# Altium schematic symbol library FPGA_Xilinx_Virtex7.SchLib: 34 symbols (part 22 of 26)
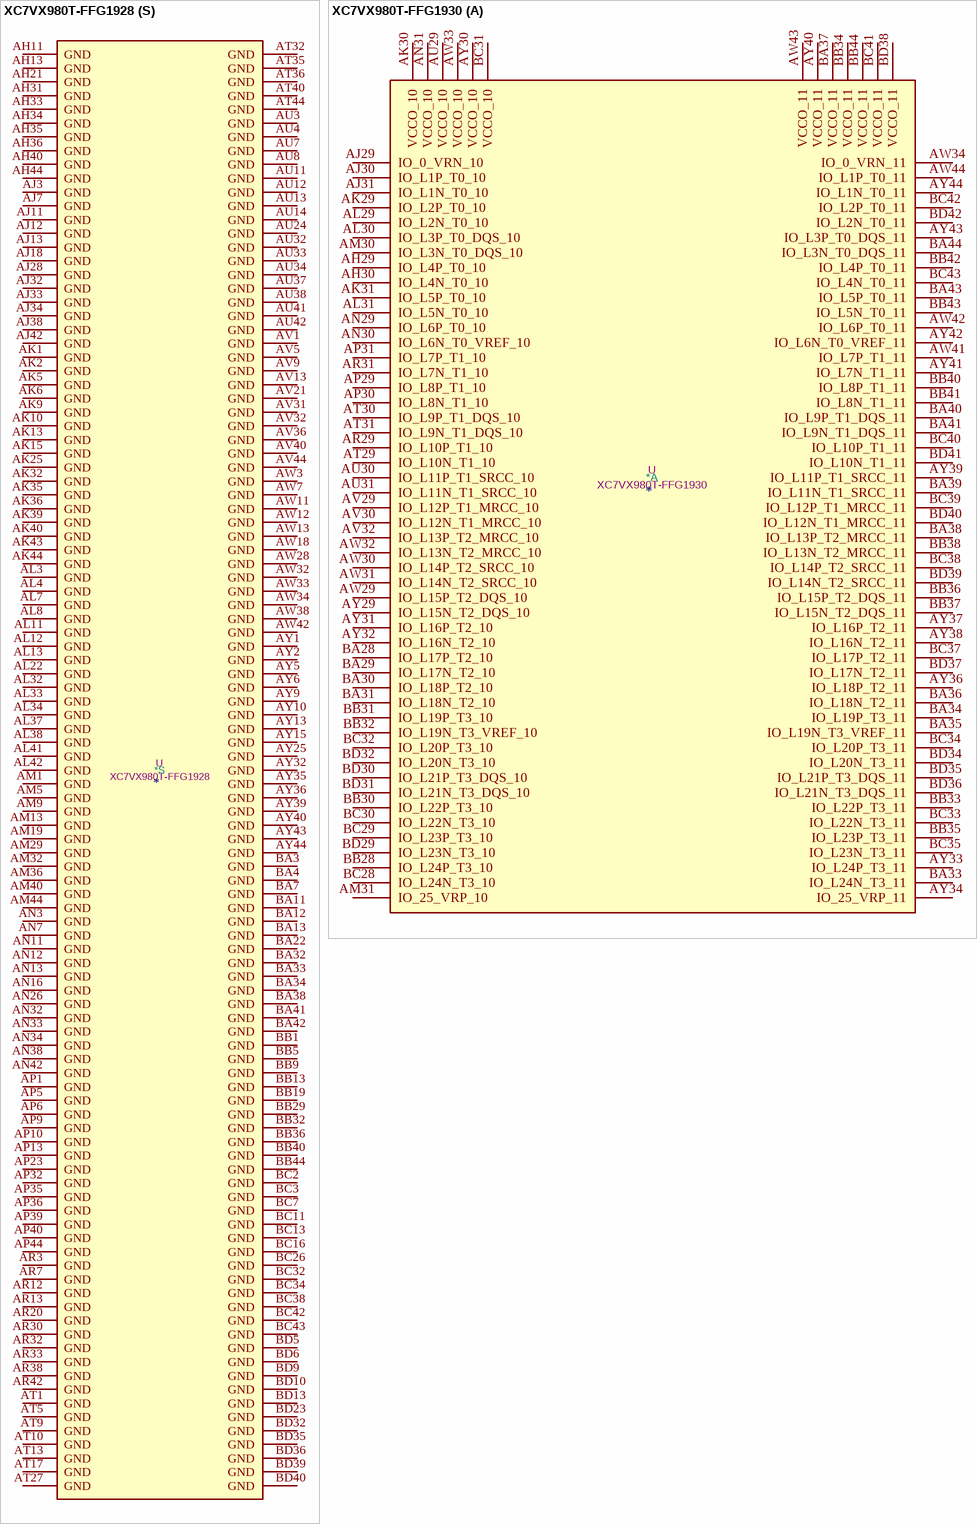
[diagram p193: symbols XC7VX980T-FFG1928 to XC7VX980T-FFG1930]

## XC7VX980T-FFG1928
designator *  value XC7VX980T-FFG1928  Reference: U
Virtex 7 XT 980 XC7VX980T-FFG1928; ki_keywords: FPGA; Description_: Virtex 7 XT 980 XC7VX980T-FFG1928
part A pins: AG28 IO_L1P_T0_D00_MOSI_14, AG30 IO_L2P_T0_D02_14, AH25 IO_L2P_T0_13, AH26 VCCO_13, AH27 IO_L1P_T0_13, AH28 IO_L1N_T0_D01_DIN_14, AH29 IO_L3P_T0_DQS_PUDC_B_14, AH30 IO_L2N_T0_D03_14, AJ25 IO_L2N_T0_13, AJ26 IO_L4P_T0_13, AJ27 IO_L1N_T0_13, AJ29 IO_L3N_T0_DQS_EMCCLK_14, AJ30 IO_L4P_T0_D04_14, AJ31 IO_L4N_T0_D05_14, AK26 IO_L4N_T0_13, AK27 IO_25_VRP_13, AK28 IO_L5P_T0_D06_14, AK29 IO_L5N_T0_D07_14, AK30 VCCO_14, AK31 IO_0_VRN_14, AL25 IO_0_VRN_13, AL26 IO_L5P_T0_13, AL27 VCCO_13, AL28 IO_25_VRP_14, AL29 IO_L6P_T0_FCS_B_14, AL30 IO_L6N_T0_D08_VREF_14, AL31 IO_L7P_T1_D09_14, AM25 IO_L3P_T0_DQS_13, AM26 IO_L5N_T0_13, AM27 IO_L6P_T0_13, AM28 IO_L9P_T1_DQS_14, AM30 IO_L8P_T1_D11_14, AM31 IO_L7N_T1_D10_14, AN25 IO_L3N_T0_DQS_13, AN27 IO_L6N_T0_VREF_13, AN28 IO_L9N_T1_DQS_D13_14, AN29 IO_L10P_T1_D14_14, AN30 IO_L8N_T1_D12_14, AN31 VCCO_14, AP25 IO_L8P_T1_13, AP26 IO_L8N_T1_13, AP27 IO_L9P_T1_DQS_13, AP28 VCCO_14, AP29 IO_L12P_T1_MRCC_14, AP30 IO_L10N_T1_D15_14, AP31 IO_L11P_T1_SRCC_14, AR25 VCCO_13, AR26 IO_L7P_T1_13, AR27 IO_L9N_T1_DQS_13, AR28 IO_L14P_T2_SRCC_14, AR29 IO_L12N_T1_MRCC_14, AR31 IO_L11N_T1_SRCC_14, AT25 IO_L10P_T1_13, AT26 IO_L7N_T1_13, AT28 IO_L14N_T2_SRCC_14, AT29 IO_L13P_T2_MRCC_14, AT30 IO_L13N_T2_MRCC_14, AT31 IO_L15P_T2_DQS_RDWR_B_14, AU25 IO_L11P_T1_SRCC_13, AU26 IO_L10N_T1_13, AU27 IO_L12P_T1_MRCC_13, AU28 IO_L12N_T1_MRCC_13, AU29 VCCO_14, AU30 IO_L17P_T2_A14_D30_14, AU31 IO_L15N_T2_DQS_DOUT_CSO_B_14, AV25 IO_L11N_T1_SRCC_13, AV26 VCCO_13, AV27 IO_L14P_T2_SRCC_13, AV28 IO_L14N_T2_SRCC_13, AV29 IO_L18P_T2_A12_D28_14, AV30 IO_L17N_T2_A13_D29_14, AW25 IO_L13P_T2_MRCC_13, AW26 IO_L13N_T2_MRCC_13, AW27 IO_L15P_T2_DQS_13, AW29 IO_L18N_T2_A11_D27_14, AW30 IO_L16P_T2_CSI_B_14, AW31 IO_L16N_T2_A15_D31_14, AY26 IO_L18P_T2_13, AY27 IO_L15N_T2_DQS_13, AY28 IO_L17P_T2_13, AY29 IO_L19P_T3_A10_D26_14, AY30 VCCO_14, AY31 IO_L20P_T3_A08_D24_14, BA24 IO_L16P_T2_13, BA25 IO_L16N_T2_13, BA26 IO_L18N_T2_13, BA27 VCCO_13, BA28 IO_L17N_T2_13, BA29 IO_L19N_T3_A09_D25_VREF_14, BA30 IO_L22P_T3_A05_D21_14, BA31 IO_L20N_T3_A07_D23_14, BB24 VCCO_13, BB25 IO_L19P_T3_13, BB26 IO_L19N_T3_VREF_13, BB27 IO_L20P_T3_13, BB28 IO_L24P_T3_13, BB30 IO_L24P_T3_A01_D17_14, BB31 IO_L22N_T3_A04_D20_14, BC24 IO_L21P_T3_DQS_13, BC25 IO_L21N_T3_DQS_13, BC27 IO_L20N_T3_13, BC28 IO_L24N_T3_13, BC29 IO_L23P_T3_A03_D19_14, BC30 IO_L24N_T3_A00_D16_14, BC31 VCCO_14, BD24 IO_L23P_T3_13, BD25 IO_L23N_T3_13, BD26 IO_L22P_T3_13, BD27 IO_L22N_T3_13, BD28 VCCO_13, BD29 IO_L23N_T3_A02_D18_14, BD30 IO_L21P_T3_DQS_14, BD31 IO_L21N_T3_DQS_A06_D22_14
part B pins: A25 IO_L16P_T2_16, A26 IO_L16N_T2_16, A27 VCCO_16, A28 IO_L15N_T2_DQS_16, A29 IO_L24P_T3_RS1_15, A30 IO_L24N_T3_RS0_15, A31 IO_L23N_T3_FWE_B_15, B25 IO_L18N_T2_16, B26 IO_L17P_T2_16, B27 IO_L17N_T2_16, B28 IO_L15P_T2_DQS_16, B30 IO_L22N_T3_A16_15, B31 IO_L23P_T3_FOE_B_15, C25 IO_L18P_T2_16, C27 IO_L19P_T3_16, C28 IO_L19N_T3_VREF_16, C29 IO_L22P_T3_A17_15, C30 IO_L21N_T3_DQS_A18_15, C31 VCCO_15, D25 IO_L13P_T2_MRCC_16, D26 IO_L13N_T2_MRCC_16, D27 IO_L11N_T1_SRCC_16, D28 VCCO_15, D29 IO_L20N_T3_A19_15, D30 IO_L21P_T3_DQS_15, D31 IO_L19N_T3_A21_VREF_15, E25 VCCO_16, E26 IO_L14N_T2_SRCC_16, E27 IO_L11P_T1_SRCC_16, E28 IO_L12N_T1_MRCC_16, E29 IO_L20P_T3_A20_15, E31 IO_L19P_T3_A22_15, F26 IO_L14P_T2_SRCC_16, F28 IO_L12P_T1_MRCC_16, F29 IO_L17P_T2_A26_15, F30 IO_L17N_T2_A25_15, F31 IO_L18N_T2_A23_15, G26 IO_L7P_T1_16, G27 IO_L7N_T1_16, G28 IO_L6N_T0_VREF_16, G29 VCCO_15, G30 IO_L15N_T2_DQS_ADV_B_15, G31 IO_L18P_T2_A24_15, H26 VCCO_16, H27 IO_L10N_T1_16, H28 IO_L6P_T0_16, H29 IO_L15P_T2_DQS_15, H30 IO_L16N_T2_A27_15, J26 IO_L9N_T1_DQS_16, J27 IO_L10P_T1_16, J29 IO_L13N_T2_MRCC_15, J30 IO_L16P_T2_A28_15, J31 IO_L14N_T2_SRCC_15, K26 IO_L9P_T1_DQS_16, K27 IO_L8P_T1_16, K28 IO_L8N_T1_16, K29 IO_L13P_T2_MRCC_15, K30 VCCO_15, K31 IO_L14P_T2_SRCC_15, L26 IO_25_VRP_16, L27 VCCO_16, L28 IO_0_VRN_16, L29 IO_L12P_T1_MRCC_15, L30 IO_L12N_T1_MRCC_15, L31 IO_L11N_T1_SRCC_15, M26 IO_L10P_T1_AD11P_15, M27 IO_L10N_T1_AD11N_15, M28 IO_L8N_T1_AD10N_15, M30 IO_L9N_T1_DQS_AD3N_15, M31 IO_L11P_T1_SRCC_15, N27 IO_L8P_T1_AD10P_15, N28 IO_L7P_T1_AD2P_15, N29 IO_L7N_T1_AD2N_15, N30 IO_L9P_T1_DQS_AD3P_15, N31 VCCO_15, P26 IO_L2N_T0_AD8N_15, P27 IO_L4N_T0_15, P28 VCCO_15, P29 IO_L6P_T0_15, P30 IO_L6N_T0_VREF_15, P31 IO_L5N_T0_AD9N_15, R26 IO_L2P_T0_AD8P_15, R27 IO_L4P_T0_15, R28 IO_L1N_T0_AD0N_15, R29 IO_L3N_T0_DQS_AD1N_15, R31 IO_L5P_T0_AD9P_15, T26 IO_0_VRN_15, T28 IO_L1P_T0_AD0P_15, T29 IO_L3P_T0_DQS_AD1P_15, T30 IO_25_VRP_15
part C pins: AG16 IO_25_VRP_34, AG20 IO_0_VRN_33, AH14 IO_0_VRN_34, AH15 IO_L1P_T0_34, AH16 VCCO_34, AH17 IO_L1P_T0_33, AH18 IO_L2N_T0_33, AH19 IO_L2P_T0_33, AH20 IO_L4P_T0_33, AJ14 IO_L2P_T0_34, AJ15 IO_L1N_T0_34, AJ16 IO_L3P_T0_DQS_34, AJ17 IO_L1N_T0_33, AJ19 IO_L3P_T0_DQS_33, AJ20 IO_L4N_T0_33, AK14 IO_L2N_T0_34, AK16 IO_L3N_T0_DQS_34, AK17 IO_25_VRP_33, AK18 IO_L5P_T0_33, AK19 IO_L3N_T0_DQS_33, AK20 VCCO_33, AL14 IO_L4N_T0_34, AL15 IO_L4P_T0_34, AL16 IO_L5P_T0_34, AL17 VCCO_33, AL18 IO_L5N_T0_33, AL19 IO_L6N_T0_VREF_33, AL20 IO_L6P_T0_33, AM14 VCCO_34, AM15 IO_L6P_T0_34, AM16 IO_L5N_T0_34, AM17 IO_L7N_T1_33, AM18 IO_L7P_T1_33, AM20 IO_L8P_T1_33, AN14 IO_L8P_T1_34, AN15 IO_L6N_T0_VREF_34, AN17 IO_L9P_T1_DQS_33, AN18 IO_L10N_T1_33, AN19 IO_L10P_T1_33, AN20 IO_L8N_T1_33, AP14 IO_L8N_T1_34, AP15 IO_L10P_T1_34, AP16 IO_L7P_T1_34, AP17 IO_L9N_T1_DQS_33, AP18 VCCO_33, AP19 IO_L11N_T1_SRCC_33, AP20 IO_L11P_T1_SRCC_33, AR14 IO_L10N_T1_34, AR15 VCCO_34, AR16 IO_L7N_T1_34, AR17 IO_L9P_T1_DQS_34, AR18 IO_L12N_T1_MRCC_33, AR19 IO_L12P_T1_MRCC_33, AT14 IO_L12N_T1_MRCC_34, AT15 IO_L12P_T1_MRCC_34, AT16 IO_L9N_T1_DQS_34, AT18 IO_L14N_T2_SRCC_33, AT19 IO_L14P_T2_SRCC_33, AT20 IO_L13P_T2_MRCC_33, AU15 IO_L13P_T2_MRCC_34, AU16 IO_L11N_T1_SRCC_34, AU17 IO_L11P_T1_SRCC_34, AU18 IO_L18P_T2_33, AU19 VCCO_33, AU20 IO_L13N_T2_MRCC_33, AV14 IO_L15P_T2_DQS_34, AV15 IO_L13N_T2_MRCC_34, AV16 VCCO_34, AV17 IO_L14P_T2_SRCC_34, AV18 IO_L18N_T2_33, AV19 IO_L17P_T2_33, AV20 IO_L15P_T2_DQS_33, AW14 IO_L15N_T2_DQS_34, AW15 IO_L17N_T2_34, AW16 IO_L17P_T2_34, AW17 IO_L14N_T2_SRCC_34, AW19 IO_L17N_T2_33, AW20 IO_L15N_T2_DQS_33, AY14 IO_L16P_T2_34, AY16 IO_L18N_T2_34, AY17 IO_L18P_T2_34, AY18 IO_L16N_T2_33, AY19 IO_L16P_T2_33, AY20 VCCO_33, AY21 IO_L20P_T3_33, BA14 IO_L16N_T2_34, BA15 IO_L19N_T3_VREF_34, BA16 IO_L19P_T3_34, BA17 VCCO_34, BA18 IO_L21P_T3_DQS_33, BA19 IO_L19N_T3_VREF_33, BA20 IO_L19P_T3_33, BA21 IO_L20N_T3_33, BB14 VCCO_34, BB15 IO_L20N_T3_34, BB16 IO_L20P_T3_34, BB17 IO_L22P_T3_34, BB18 IO_L21N_T3_DQS_33, BB20 IO_L22P_T3_33, BC14 IO_L21N_T3_DQS_34, BC15 IO_L21P_T3_DQS_34, BC17 IO_L22N_T3_34, BC18 IO_L23N_T3_33, BC19 IO_L23P_T3_33, BC20 IO_L22N_T3_33, BD14 IO_L23N_T3_34, BD15 IO_L23P_T3_34, BD16 IO_L24N_T3_34, BD17 IO_L24P_T3_34, BD18 VCCO_33, BD19 IO_L24N_T3_33, BD20 IO_L24P_T3_33
part D pins: A23 IO_L24P_T3_36, A24 IO_L24N_T3_36, AG22 IO_0_VRN_35, AH22 IO_L4P_T0_35, AH23 IO_L2P_T0_AD12P_35, AH24 IO_L2N_T0_AD12N_35, AJ21 IO_L5P_T0_AD13P_35, AJ22 IO_L4N_T0_35, AJ23 VCCO_35, AJ24 IO_L1P_T0_AD4P_35, AK21 IO_L5N_T0_AD13N_35, AK22 IO_L3P_T0_DQS_AD5P_35, AK23 IO_L3N_T0_DQS_AD5N_35, AK24 IO_L1N_T0_AD4N_35, AL21 IO_25_VRP_35, AL23 IO_L6P_T0_35, AL24 IO_L6N_T0_VREF_35, AM21 IO_L7P_T1_AD6P_35, AM22 IO_L7N_T1_AD6N_35, AM23 IO_L8P_T1_AD14P_35, AM24 VCCO_35, AN21 VCCO_35, AN22 IO_L9P_T1_DQS_AD7P_35, AN23 IO_L8N_T1_AD14N_35, AN24 IO_L10P_T1_AD15P_35, AP21 IO_L11P_T1_SRCC_35, AP22 IO_L9N_T1_DQS_AD7N_35, AP24 IO_L10N_T1_AD15N_35, AR21 IO_L11N_T1_SRCC_35, AR22 IO_L12P_T1_MRCC_35, AR23 IO_L12N_T1_MRCC_35, AR24 IO_L13P_T2_MRCC_35, AT21 IO_L15P_T2_DQS_35, AT22 VCCO_35, AT23 IO_L14P_T2_SRCC_35, AT24 IO_L13N_T2_MRCC_35, AU21 IO_L15N_T2_DQS_35, AU22 IO_L16P_T2_35, AU23 IO_L14N_T2_SRCC_35, AV22 IO_L16N_T2_35, AV23 IO_L18P_T2_35, AV24 IO_L18N_T2_35, AW21 IO_L17P_T2_35, AW22 IO_L17N_T2_35, AW23 VCCO_35, AW24 IO_L20P_T3_35, AY22 IO_L19P_T3_35, AY23 IO_L19N_T3_VREF_35, AY24 IO_L20N_T3_35, B22 IO_L21N_T3_DQS_36, B23 IO_L23N_T3_36, B24 VCCO_36, BA23 IO_L22P_T3_35, BB21 IO_L21P_T3_DQS_35, BB22 IO_L21N_T3_DQS_35, BB23 IO_L22N_T3_35, BC21 VCCO_35, BC22 IO_L24P_T3_35, BC23 IO_L24N_T3_35, BD21 IO_L23P_T3_35, BD22 IO_L23N_T3_35, C22 IO_L21P_T3_DQS_36, C23 IO_L23P_T3_36, C24 IO_L22N_T3_36, D22 IO_L20N_T3_36, D24 IO_L22P_T3_36, E22 IO_L20P_T3_36, E23 IO_L19P_T3_36, E24 IO_L19N_T3_VREF_36, F22 VCCO_36, F23 IO_L17P_T2_36, F24 IO_L17N_T2_36, F25 IO_L18N_T2_36, G22 IO_L15P_T2_DQS_36, G23 IO_L15N_T2_DQS_36, G25 IO_L18P_T2_36, H22 IO_L13P_T2_MRCC_36, H23 IO_L13N_T2_MRCC_36, H24 IO_L16P_T2_36, H25 IO_L16N_T2_36, J22 IO_L12N_T1_MRCC_36, J23 VCCO_36, J24 IO_L14P_T2_SRCC_36, J25 IO_L14N_T2_SRCC_36, K22 IO_L12P_T1_MRCC_36, K23 IO_L11P_T1_SRCC_36, K24 IO_L11N_T1_SRCC_36, L23 IO_L7P_T1_36, L24 IO_L7N_T1_36, L25 IO_L9N_T1_DQS_36, M22 IO_L10P_T1_36, M23 IO_L10N_T1_36, M24 VCCO_36, M25 IO_L9P_T1_DQS_36, N22 IO_L8P_T1_36, N23 IO_L8N_T1_36, N24 IO_L6P_T0_36, N25 IO_L6N_T0_VREF_36, P21 IO_L2N_T0_36, P22 IO_L4N_T0_36, P24 IO_L3N_T0_DQS_36, P25 IO_25_VRP_36, R21 IO_L2P_T0_36, R22 IO_L4P_T0_36, R23 IO_L1N_T0_36, R24 IO_L3P_T0_DQS_36, R25 VCCO_36, T21 IO_0_VRN_36, T22 VCCO_36, T23 IO_L1P_T0_36, T24 IO_L5P_T0_36, T25 IO_L5N_T0_36
part E pins: A14 IO_L24N_T3_37, A15 IO_L24P_T3_37, A16 IO_L23N_T3_37, A17 VCCO_37, A18 IO_L20N_T3_38, A19 IO_L20P_T3_38, A20 IO_L22N_T3_38, A21 IO_L24N_T3_38, B14 VCCO_37, B15 IO_L22N_T3_37, B16 IO_L23P_T3_37, B17 IO_L21N_T3_DQS_37, B18 IO_L23N_T3_38, B20 IO_L22P_T3_38, B21 IO_L24P_T3_38, C14 IO_L20N_T3_37, C15 IO_L22P_T3_37, C17 IO_L21P_T3_DQS_37, C18 IO_L23P_T3_38, C19 IO_L21N_T3_DQS_38, C20 IO_L21P_T3_DQS_38, C21 VCCO_38, D14 IO_L20P_T3_37, D15 IO_L19N_T3_VREF_37, D16 IO_L19P_T3_37, D17 IO_L15N_T2_DQS_38, D18 VCCO_38, D19 IO_L17N_T2_38, D20 IO_L19N_T3_VREF_38, D21 IO_L19P_T3_38, E14 IO_L18N_T2_37, E15 VCCO_37, E16 IO_L17N_T2_37, E17 IO_L17P_T2_37, E18 IO_L15P_T2_DQS_38, E19 IO_L17P_T2_38, E21 IO_L18N_T2_38, F14 IO_L18P_T2_37, F15 IO_L16N_T2_37, F16 IO_L15N_T2_DQS_37, F18 IO_L13N_T2_MRCC_38, F19 IO_L16N_T2_38, F20 IO_L16P_T2_38, F21 IO_L18P_T2_38, G15 IO_L16P_T2_37, G16 IO_L15P_T2_DQS_37, G17 IO_L13N_T2_MRCC_37, G18 IO_L13P_T2_MRCC_38, G19 VCCO_38, G20 IO_L14N_T2_SRCC_38, G21 IO_L14P_T2_SRCC_38, H14 IO_L14N_T2_SRCC_37, H15 IO_L14P_T2_SRCC_37, H16 VCCO_37, H17 IO_L13P_T2_MRCC_37, H18 IO_L12N_T1_MRCC_38, H19 IO_L12P_T1_MRCC_38, H20 IO_L11N_T1_SRCC_38, J14 IO_L11N_T1_SRCC_37, J15 IO_L11P_T1_SRCC_37, J16 IO_L12N_T1_MRCC_37, J17 IO_L12P_T1_MRCC_37, J19 IO_L10N_T1_38, J20 IO_L11P_T1_SRCC_38, J21 IO_L9N_T1_DQS_38, K14 IO_L9N_T1_DQS_37, K16 IO_L7N_T1_37, K17 IO_L7P_T1_37, K18 IO_L8N_T1_38, K19 IO_L10P_T1_38, K20 VCCO_38, K21 IO_L9P_T1_DQS_38, L14 IO_L9P_T1_DQS_37, L15 IO_L10N_T1_37, L16 IO_L10P_T1_37, L17 VCCO_37, L18 IO_L6N_T0_VREF_38, L19 IO_L8P_T1_38, L20 IO_L7N_T1_38, L21 IO_L7P_T1_38, M14 VCCO_37, M15 IO_L6N_T0_VREF_37, M16 IO_L8N_T1_37, M17 IO_L8P_T1_37, M18 IO_L6P_T0_38, M20 IO_L3N_T0_DQS_38, M21 IO_L3P_T0_DQS_38, N14 IO_25_VRP_37, N15 IO_L6P_T0_37, N17 IO_L2N_T0_37, N18 IO_0_VRN_38, N19 IO_L2N_T0_38, N20 IO_L1N_T0_38, N21 VCCO_38, P14 IO_L3N_T0_DQS_37, P15 IO_L3P_T0_DQS_37, P16 IO_L4N_T0_37, P17 IO_L2P_T0_37, P18 VCCO_38, P19 IO_L2P_T0_38, P20 IO_L1P_T0_38, R14 IO_L5N_T0_37, R15 VCCO_37, R16 IO_L4P_T0_37, R17 IO_0_VRN_37, R18 IO_L4N_T0_38, R19 IO_L5N_T0_38, T14 IO_L5P_T0_37, T15 IO_L1N_T0_37, T16 IO_L1P_T0_37, T18 IO_L4P_T0_38, T19 IO_L5P_T0_38, T20 IO_25_VRP_38
part F pins: AR9 MGTREFCLK0N_111, AR10 MGTREFCLK0P_111, AT11 MGTREFCLK1N_111, AT12 MGTREFCLK1P_111, AU9 MGTREFCLK0N_110, AU10 MGTREFCLK0P_110, AV11 MGTREFCLK1N_110, AV12 MGTREFCLK1P_110, AW1 MGTHTXN3_111, AW2 MGTHTXP3_111, AW5 MGTHRXN3_111, AW6 MGTHRXP3_111, AW9 MGTHRXN2_111, AW10 MGTHRXP2_111, AY3 MGTHTXN2_111, AY4 MGTHTXP2_111, AY7 MGTHRXN1_111, AY8 MGTHRXP1_111, BA1 MGTHTXN1_111, BA2 MGTHTXP1_111, BA5 MGTHTXN0_111, BA6 MGTHTXP0_111, BA9 MGTHRXN0_111, BA10 MGTHRXP0_111, BB3 MGTHTXN3_110, BB4 MGTHTXP3_110, BB7 MGTHRXN3_110, BB8 MGTHRXP3_110, BB11 MGTHRXN2_110, BB12 MGTHRXP2_110, BC5 MGTHTXN2_110, BC6 MGTHTXP2_110, BC9 MGTHRXN1_110, BC10 MGTHRXP1_110, BD3 MGTHTXN1_110, BD4 MGTHTXP1_110, BD7 MGTHTXN0_110, BD8 MGTHTXP0_110, BD11 MGTHRXN0_110, BD12 MGTHRXP0_110
part G pins: AL1 MGTHTXN3_113, AL2 MGTHTXP3_113, AL5 MGTHRXN3_113, AL6 MGTHRXP3_113, AL9 MGTREFCLK0N_113, AL10 MGTREFCLK0P_113, AM3 MGTHTXN2_113, AM4 MGTHTXP2_113, AM7 MGTHRXN2_113, AM8 MGTHRXP2_113, AM11 MGTREFCLK1N_113, AM12 MGTREFCLK1P_113, AN1 MGTHTXN1_113, AN2 MGTHTXP1_113, AN5 MGTHRXN1_113, AN6 MGTHRXP1_113, AN9 MGTREFCLK0N_112, AN10 MGTREFCLK0P_112, AP3 MGTHTXN0_113, AP4 MGTHTXP0_113, AP7 MGTHRXN0_113, AP8 MGTHRXP0_113, AP11 MGTREFCLK1N_112, AP12 MGTREFCLK1P_112, AR1 MGTHTXN3_112, AR2 MGTHTXP3_112, AR5 MGTHRXN3_112, AR6 MGTHRXP3_112, AT3 MGTHTXN2_112, AT4 MGTHTXP2_112, AT7 MGTHRXN2_112, AT8 MGTHRXP2_112, AU1 MGTHTXN1_112, AU2 MGTHTXP1_112, AU5 MGTHRXN1_112, AU6 MGTHRXP1_112, AV3 MGTHTXN0_112, AV4 MGTHTXP0_112, AV7 MGTHRXN0_112, AV8 MGTHRXP0_112
part H pins: AC1 MGTHTXN3_115, AC2 MGTHTXP3_115, AC5 MGTHRXN3_115, AC6 MGTHRXP3_115, AC9 MGTREFCLK0N_115, AC10 MGTREFCLK0P_115, AD3 MGTHTXN2_115, AD4 MGTHTXP2_115, AD7 MGTHRXN2_115, AD8 MGTHRXP2_115, AE1 MGTHTXN1_115, AE2 MGTHTXP1_115, AE5 MGTHRXN1_115, AE6 MGTHRXP1_115, AE9 MGTREFCLK1N_115, AE10 MGTREFCLK1P_115, AF3 MGTHTXN0_115, AF4 MGTHTXP0_115, AF7 MGTHRXN0_115, AF8 MGTHRXP0_115, AG1 MGTHTXN3_114, AG2 MGTHTXP3_114, AG5 MGTHRXN3_114, AG6 MGTHRXP3_114, AG9 MGTREFCLK0N_114, AG10 MGTREFCLK0P_114, AH3 MGTHTXN2_114, AH4 MGTHTXP2_114, AH7 MGTHRXN2_114, AH8 MGTHRXP2_114, AJ1 MGTHTXN1_114, AJ2 MGTHTXP1_114, AJ5 MGTHRXN1_114, AJ6 MGTHRXP1_114, AJ9 MGTREFCLK1N_114, AJ10 MGTREFCLK1P_114, AK3 MGTHTXN0_114, AK4 MGTHTXP0_114, AK7 MGTHRXN0_114, AK8 MGTHRXP0_114
part I pins: AA1 MGTHTXN1_116, AA2 MGTHTXP1_116, AA5 MGTHRXN1_116, AA6 MGTHRXP1_116, AA9 MGTREFCLK1N_116, AA10 MGTREFCLK1P_116, AB3 MGTHTXN0_116, AB4 MGTHTXP0_116, AB7 MGTHRXN0_116, AB8 MGTHRXP0_116, R1 MGTHTXN3_117, R2 MGTHTXP3_117, R5 MGTHRXN3_117, R6 MGTHRXP3_117, R9 MGTREFCLK0N_117, R10 MGTREFCLK0P_117, T3 MGTHTXN2_117, T4 MGTHTXP2_117, T7 MGTHRXN2_117, T8 MGTHRXP2_117, U1 MGTHTXN1_117, U2 MGTHTXP1_117, U5 MGTHRXN1_117, U6 MGTHRXP1_117, U9 MGTREFCLK1N_117, U10 MGTREFCLK1P_117, V3 MGTHTXN0_117, V4 MGTHTXP0_117, V7 MGTHRXN0_117, V8 MGTHRXP0_117, W1 MGTHTXN3_116, W2 MGTHTXP3_116, W5 MGTHRXN3_116, W6 MGTHRXP3_116, W9 MGTREFCLK0N_116, W10 MGTREFCLK0P_116, Y3 MGTHTXN2_116, Y4 MGTHTXP2_116, Y7 MGTHRXN2_116, Y8 MGTHRXP2_116
part J pins: AU35 MGTREFCLK0P_210, AU36 MGTREFCLK0N_210, AV33 MGTREFCLK1P_210, AV34 MGTREFCLK1N_210, BB33 MGTHRXP2_210, BB34 MGTHRXN2_210, BB37 MGTHRXP3_210, BB38 MGTHRXN3_210, BB41 MGTHTXP3_210, BB42 MGTHTXN3_210, BC35 MGTHRXP1_210, BC36 MGTHRXN1_210, BC39 MGTHTXP2_210, BC40 MGTHTXN2_210, BD33 MGTHRXP0_210, BD34 MGTHRXN0_210, BD37 MGTHTXP0_210, BD38 MGTHTXN0_210, BD41 MGTHTXP1_210, BD42 MGTHTXN1_210, L1 MGTHTXN3_118, L2 MGTHTXP3_118, L5 MGTHRXN3_118, L6 MGTHRXP3_118, M3 MGTHTXN2_118, M4 MGTHTXP2_118, M7 MGTHRXN2_118, M8 MGTHRXP2_118, N1 MGTHTXN1_118, N2 MGTHTXP1_118, N5 MGTHRXN1_118, N6 MGTHRXP1_118, N9 MGTREFCLK0N_118, N10 MGTREFCLK0P_118, P3 MGTHTXN0_118, P4 MGTHTXP0_118, P7 MGTHRXN0_118, P8 MGTHRXP0_118, P11 MGTREFCLK1N_118, P12 MGTREFCLK1P_118
part K pins: AN35 MGTREFCLK0P_212, AN36 MGTREFCLK0N_212, AP33 MGTREFCLK1P_212, AP34 MGTREFCLK1N_212, AR35 MGTREFCLK0P_211, AR36 MGTREFCLK0N_211, AR39 MGTHRXP3_212, AR40 MGTHRXN3_212, AR43 MGTHTXP3_212, AR44 MGTHTXN3_212, AT33 MGTREFCLK1P_211, AT34 MGTREFCLK1N_211, AT37 MGTHRXP2_212, AT38 MGTHRXN2_212, AT41 MGTHTXP2_212, AT42 MGTHTXN2_212, AU39 MGTHRXP1_212, AU40 MGTHRXN1_212, AU43 MGTHTXP1_212, AU44 MGTHTXN1_212, AV37 MGTHRXP0_212, AV38 MGTHRXN0_212, AV41 MGTHTXP0_212, AV42 MGTHTXN0_212, AW35 MGTHRXP2_211, AW36 MGTHRXN2_211, AW39 MGTHRXP3_211, AW40 MGTHRXN3_211, AW43 MGTHTXP3_211, AW44 MGTHTXN3_211, AY37 MGTHRXP1_211, AY38 MGTHRXN1_211, AY41 MGTHTXP2_211, AY42 MGTHTXN2_211, BA35 MGTHRXP0_211, BA36 MGTHRXN0_211, BA39 MGTHTXP0_211, BA40 MGTHTXN0_211, BA43 MGTHTXP1_211, BA44 MGTHTXN1_211
part L pins: AG35 MGTREFCLK0P_214, AG36 MGTREFCLK0N_214, AG39 MGTHRXP3_214, AG40 MGTHRXN3_214, AG43 MGTHTXP3_214, AG44 MGTHTXN3_214, AH37 MGTHRXP2_214, AH38 MGTHRXN2_214, AH41 MGTHTXP2_214, AH42 MGTHTXN2_214, AJ35 MGTREFCLK1P_214, AJ36 MGTREFCLK1N_214, AJ39 MGTHRXP1_214, AJ40 MGTHRXN1_214, AJ43 MGTHTXP1_214, AJ44 MGTHTXN1_214, AK37 MGTHRXP0_214, AK38 MGTHRXN0_214, AK41 MGTHTXP0_214, AK42 MGTHTXN0_214, AL35 MGTREFCLK0P_213, AL36 MGTREFCLK0N_213, AL39 MGTHRXP3_213, AL40 MGTHRXN3_213, AL43 MGTHTXP3_213, AL44 MGTHTXN3_213, AM33 MGTREFCLK1P_213, AM34 MGTREFCLK1N_213, AM37 MGTHRXP2_213, AM38 MGTHRXN2_213, AM41 MGTHTXP2_213, AM42 MGTHTXN2_213, AN39 MGTHRXP1_213, AN40 MGTHRXN1_213, AN43 MGTHTXP1_213, AN44 MGTHTXN1_213, AP37 MGTHRXP0_213, AP38 MGTHRXN0_213, AP41 MGTHTXP0_213, AP42 MGTHTXN0_213
part M pins: AA35 MGTREFCLK1P_216, AA36 MGTREFCLK1N_216, AA39 MGTHRXP1_216, AA40 MGTHRXN1_216, AA43 MGTHTXP1_216, AA44 MGTHTXN1_216, AB37 MGTHRXP0_216, AB38 MGTHRXN0_216, AB41 MGTHTXP0_216, AB42 MGTHTXN0_216, AC35 MGTREFCLK0P_215, AC36 MGTREFCLK0N_215, AC39 MGTHRXP3_215, AC40 MGTHRXN3_215, AC43 MGTHTXP3_215, AC44 MGTHTXN3_215, AD37 MGTHRXP2_215, AD38 MGTHRXN2_215, AD41 MGTHTXP2_215, AD42 MGTHTXN2_215, AE35 MGTREFCLK1P_215, AE36 MGTREFCLK1N_215, AE39 MGTHRXP1_215, AE40 MGTHRXN1_215, AE43 MGTHTXP1_215, AE44 MGTHTXN1_215, AF37 MGTHRXP0_215, AF38 MGTHRXN0_215, AF41 MGTHTXP0_215, AF42 MGTHTXN0_215, W35 MGTREFCLK0P_216, W36 MGTREFCLK0N_216, W39 MGTHRXP3_216, W40 MGTHRXN3_216, W43 MGTHTXP3_216, W44 MGTHTXN3_216, Y37 MGTHRXP2_216, Y38 MGTHRXN2_216, Y41 MGTHTXP2_216, Y42 MGTHTXN2_216
part N pins: L39 MGTHRXP3_218, L40 MGTHRXN3_218, L43 MGTHTXP3_218, L44 MGTHTXN3_218, M37 MGTHRXP2_218, M38 MGTHRXN2_218, M41 MGTHTXP2_218, M42 MGTHTXN2_218, N35 MGTREFCLK0P_218, N36 MGTREFCLK0N_218, N39 MGTHRXP1_218, N40 MGTHRXN1_218, N43 MGTHTXP1_218, N44 MGTHTXN1_218, P33 MGTREFCLK1P_218, P34 MGTREFCLK1N_218, P37 MGTHRXP0_218, P38 MGTHRXN0_218, P41 MGTHTXP0_218, P42 MGTHTXN0_218, R35 MGTREFCLK0P_217, R36 MGTREFCLK0N_217, R39 MGTHRXP3_217, R40 MGTHRXN3_217, R43 MGTHTXP3_217, R44 MGTHTXN3_217, T37 MGTHRXP2_217, T38 MGTHRXN2_217, T41 MGTHTXP2_217, T42 MGTHTXN2_217, U35 MGTREFCLK1P_217, U36 MGTREFCLK1N_217, U39 MGTHRXP1_217, U40 MGTHRXN1_217, U43 MGTHTXP1_217, U44 MGTHTXN1_217, V37 MGTHRXP0_217, V38 MGTHRXN0_217, V41 MGTHTXP0_217, V42 MGTHTXN0_217
part O pins: AA4 MGTAVTT_G12, AA8 MGTAVCC_G12, AA37 MGTAVCC_G22, AA41 MGTAVTT_G22, AB2 MGTAVTT_G12, AB10 MGTVCCAUX_G12, AB35 MGTVCCAUX_G22, AB43 MGTAVTT_G22, AC4 MGTAVTT_G11, AC41 MGTAVTT_G21, AD2 MGTAVTT_G11, AD6 MGTAVCC_G11, AD10 MGTVCCAUX_G11, AD35 MGTVCCAUX_G21, AD39 MGTAVCC_G21, AD43 MGTAVTT_G21, AE4 MGTAVTT_G11, AE8 MGTAVCC_G11, AE37 MGTAVCC_G21, AE41 MGTAVTT_G21, AF10 MGTAVCC_G11, AF35 MGTAVCC_G21, AH2 MGTAVTT_G11, AH6 MGTAVCC_G11, AH39 MGTAVCC_G21, AH43 MGTAVTT_G21, AJ4 MGTAVTT_G11, AJ8 MGTAVCC_G11, AJ37 MGTAVCC_G21, AJ41 MGTAVTT_G21, AK11 MGTAVTTRCAL_115, AK12 MGTRREF_115, AK33 MGTRREF_215, AK34 MGTAVTTRCAL_215, AM2 MGTAVTT_G11, AM6 MGTAVCC_G11, AM10 MGTAVCC_G11, AM35 MGTAVCC_G21, AM39 MGTAVCC_G21, AM43 MGTAVTT_G21, AN4 MGTAVTT_G11, AN8 MGTAVCC_G11, AN37 MGTAVCC_G21, AN41 MGTAVTT_G21, AP2 MGTAVTT_G11, AP43 MGTAVTT_G21, AR4 MGTAVTT_G10, AR8 MGTAVCC_G10, AR11 MGTVCCAUX_G10, AR34 MGTVCCAUX_G20, AR37 MGTAVCC_G20, AR41 MGTAVTT_G20, AT2 MGTAVTT_G10, AT6 MGTAVCC_G10, AT39 MGTAVCC_G20, AT43 MGTAVTT_G20, AV2 MGTAVTT_G10, AV6 MGTAVCC_G10, AV10 MGTAVCC_G10, AV35 MGTAVCC_G20, AV39 MGTAVCC_G20, AV43 MGTAVTT_G20, AW4 MGTAVTT_G10, AW8 MGTAVCC_G10, AW37 MGTAVCC_G20, AW41 MGTAVTT_G20, AY11 MGTAVTTRCAL_112, AY12 MGTRREF_112, AY33 MGTRREF_212, AY34 MGTAVTTRCAL_212, B6 MGTAVTT_G13, B10 MGTAVCC_G13, B35 MGTAVCC_G23, B39 MGTAVTT_G23, BA8 MGTAVCC_G10, BA37 MGTAVCC_G20, BB2 MGTAVTT_G10, BB6 MGTAVTT_G10, BB10 MGTAVCC_G10, BB35 MGTAVCC_G20, BB39 MGTAVTT_G20, BB43 MGTAVTT_G20, BC4 MGTAVTT_G10, BC8 MGTAVTT_G10, BC12 MGTAVCC_G10, BC33 MGTAVCC_G20, BC37 MGTAVTT_G20, BC41 MGTAVTT_G20, C4 MGTAVTT_G13, C8 MGTAVTT_G13, C12 MGTAVCC_G13, C33 MGTAVCC_G23, C37 MGTAVTT_G23, C41 MGTAVTT_G23, D2 MGTAVTT_G13, D43 MGTAVTT_G23, E4 MGTAVTT_G13, E8 MGTAVCC_G13, E37 MGTAVCC_G23, E41 MGTAVTT_G23, F6 MGTAVCC_G13, F10 MGTAVCC_G13, F35 MGTAVCC_G23, F39 MGTAVCC_G23, H2 MGTAVTT_G13, H43 MGTAVTT_G23, J4 MGTAVTT_G13, J8 MGTAVCC_G13, J37 MGTAVCC_G23, J41 MGTAVTT_G23, K2 MGTAVTT_G13, K6 MGTAVCC_G13, K10 MGTAVCC_G13, K35 MGTAVCC_G23, K39 MGTAVCC_G23, K43 MGTAVTT_G23, L4 MGTAVTT_G12, L11 MGTVCCAUX_G13, L34 MGTVCCAUX_G23, L41 MGTAVTT_G22, M2 MGTAVTT_G12, M6 MGTAVCC_G12, M39 MGTAVCC_G22, M43 MGTAVTT_G22, N4 MGTAVTT_G12, N8 MGTAVCC_G12, N37 MGTAVCC_G22, N41 MGTAVTT_G22, P10 MGTAVCC_G12, P35 MGTAVCC_G22, T2 MGTAVTT_G12, T6 MGTAVCC_G12, T11 MGTAVTTRCAL_118, T12 MGTRREF_118, T33 MGTRREF_218, T34 MGTAVTTRCAL_218, T39 MGTAVCC_G22, T43 MGTAVTT_G22, U4 MGTAVTT_G12, U8 MGTAVCC_G12, U37 MGTAVCC_G22, U41 MGTAVTT_G22, Y2 MGTAVTT_G12, Y6 MGTAVCC_G12, Y10 MGTAVCC_G12, Y35 MGTAVCC_G22, Y39 MGTAVCC_G22, Y43 MGTAVTT_G22
part P pins: AA12 DONE_0, AB13 PROGRAM_B_0, AB22 VREFN_0, AB23 VP_0, AB33 CCLK_0, AC12 CFGBVS_0, AC22 VN_0, AC23 VREFP_0, AD22 DXN_0, AD23 DXP_0, AD33 TDO_0, AE12 M2_0, AE32 TCK_0, AF13 M1_0, AF33 TMS_0, AG12 M0_0, AG32 TDI_0, V33 VCCO_0, W12 INIT_B_0, Y33 VCCO_0
part Q pins: A3 GND, A4 GND, A7 GND, A8 GND, A11 GND, A12 GND, A13 GND, A22 GND, A32 GND, A33 GND, A34 GND, A37 GND, A38 GND, A41 GND, A42 GND, AA13 VCCINT, AA15 VCCINT, AA17 VCCINT, AA19 VCCAUX_IO_G3, AA21 VCCINT, AA22 GNDADC_0, AA23 VCCADC_0, AA25 VCCBRAM, AA27 VCCAUX, AA29 VCCINT, AA31 VCCINT, AA32 VCCBATT_0, AA33 VCCINT, AB12 VCCINT, AB14 VCCINT, AB16 VCCINT, AB18 VCCAUX, AB20 VCCINT, AB24 VCCBRAM, AB26 VCCBRAM, AB28 VCCINT, AB30 VCCINT, AB32 VCCINT, AC13 VCCINT, AC15 VCCINT, AC17 VCCINT, AC19 VCCAUX_IO_G2, AC21 VCCINT, AC25 VCCBRAM, AC27 VCCAUX, AC29 VCCINT, AC31 VCCINT, AC33 VCCINT, AD12 VCCINT, AD14 VCCINT, AD16 VCCINT, AD18 VCCAUX, AD20 VCCINT, AD24 VCCBRAM, AD26 VCCAUX_IO_G0, AD28 VCCINT, AD30 VCCINT, AD32 VCCINT, AE13 VCCINT, AE15 VCCINT, AE17 VCCINT, AE19 VCCAUX_IO_G2, AE21 VCCINT, AE23 VCCINT, AE25 VCCBRAM, AE27 VCCAUX, AE29 VCCINT, AE31 VCCINT, AE33 VCCINT, AF12 VCCINT, AF14 VCCINT, AF16 VCCINT, AF18 VCCAUX, AF20 VCCINT, AF22 VCCINT, AF24 VCCINT, AF26 VCCAUX_IO_G0, AF28 VCCINT, AF30 VCCINT, AF32 VCCINT, AG13 VCCINT, AG15 VCCINT, AG17 VCCINT, AG19 VCCAUX_IO_G2, AG21 VCCINT, AG23 VCCINT, AG25 VCCBRAM, AG27 VCCINT, AG29 VCCINT, AG31 VCCINT, AG33 VCCINT, AH12 VCCINT, AH32 VCCINT, B2 GND, B5 GND, B9 GND, B13 GND, B19 GND, B29 GND, B32 GND, B36 GND, B40 GND, B43 GND, C3 GND, C7 GND, C11 GND, C13 GND, C16 GND, C26 GND, C32 GND, C34 GND, C38 GND, C42 GND, D1 GND, D5 GND, D6 GND, D9 GND, D10 GND, D13 GND, D23 GND, D32 GND, D35 GND, D36 GND, D39 GND, D40 GND, D44 GND, E3 GND, E7 GND, E11 GND, E12 GND, E13 GND, E20 GND, E30 GND, E32 GND, E33 GND, E34 GND, E38 GND, E42 GND, F1 GND, F2 GND, F5 GND, F9 GND, F13 GND, F17 GND, F27 GND, F32 GND, F36 GND, F40 GND, F43 GND, F44 GND, G3 GND, G4 GND, G7 GND, G8 GND, G11 GND, G12 GND, G13 GND, G14 GND, G24 GND, G32 GND, G33 GND, G34 GND, G37 GND, G38 GND, G41 GND, G42 GND, H1 GND, H5 GND, H6 GND, H9 GND, H10 GND, H13 GND, H21 GND, H31 GND, H32 GND, H35 GND, H36 GND, H39 GND, U15 VCCINT, U17 VCCINT, U19 VCCAUX_IO_G3, U21 VCCINT, U23 VCCINT, U25 VCCBRAM, U27 VCCAUX, U29 VCCINT, U31 VCCINT, V12 VCCINT, V14 VCCINT, V16 VCCINT, V18 VCCAUX, V20 VCCINT, V22 VCCINT, V24 VCCINT, V26 VCCAUX_IO_G1, V28 VCCINT, V30 VCCINT, V32 VCCINT, W13 VCCINT, W15 VCCINT, W17 VCCINT, W19 VCCAUX_IO_G3, W21 VCCINT, W23 VCCINT, W25 VCCBRAM, W27 VCCAUX, W29 VCCINT, W31 VCCINT, W33 VCCINT, Y12 VCCINT, Y14 VCCINT, Y16 VCCINT, Y18 VCCAUX, Y20 VCCINT, Y22 VCCINT, Y24 VCCBRAM, Y26 VCCAUX_IO_G0, Y28 VCCINT, Y30 VCCINT, Y32 VCCINT
part R pins: AA3 GND, AA7 GND, AA11 GND, AA14 GND, AA16 GND, AA18 GND, AA20 GND, AA24 GND, AA26 GND, AA28 GND, AA30 GND, AA34 GND, AA38 GND, AA42 GND, AB1 GND, AB5 GND, AB6 GND, AB9 GND, AB11 GND, AB15 GND, AB17 GND, AB19 GND, AB21 GND, AB25 GND, AB27 GND, AB29 GND, AB31 GND, AB34 GND, AB36 GND, AB39 GND, AB40 GND, AB44 GND, AC3 GND, AC7 GND, AC8 GND, AC11 GND, AC14 GND, AC16 GND, AC18 GND, AC20 GND, AC24 GND, AC26 GND, AC28 GND, AC30 GND, AC32 GND, AC34 GND, AC37 GND, AC38 GND, AC42 GND, AD1 GND, AD5 GND, AD9 GND, AD11 GND, AD13 GND, AD15 GND, AD17 GND, AD19 GND, AD21 GND, AD25 GND, AD27 GND, AD29 GND, AD31 GND, AD34 GND, AD36 GND, AD40 GND, AD44 GND, AE3 GND, AE7 GND, AE11 GND, AE14 GND, AE16 GND, AE18 GND, AE20 GND, AE22 GND, AE24 GND, AE26 GND, AE28 GND, AE30 GND, AE34 GND, AE38 GND, AE42 GND, AF1 GND, AF2 GND, AF5 GND, AF6 GND, AF9 GND, AF11 GND, AF15 GND, AF17 GND, AF19 GND, AF21 GND, AF23 GND, AF25 GND, AF27 GND, AF29 GND, AF31 GND, AF34 GND, AF36 GND, AF39 GND, AF40 GND, AF43 GND, AF44 GND, AG3 GND, AG4 GND, AG7 GND, AG8 GND, AG11 GND, AG14 GND, AG18 GND, AG24 GND, AG26 GND, AG34 GND, AG37 GND, AG38 GND, AG41 GND, AG42 GND, AH1 GND, AH5 GND, AH9 GND, AH10 GND, H40 GND, H44 GND, J3 GND, J7 GND, J11 GND, J12 GND, J13 GND, J18 GND, J28 GND, J32 GND, J33 GND, J34 GND, J38 GND, J42 GND, K1 GND, K5 GND, K9 GND, K13 GND, K15 GND, K25 GND, K32 GND, K36 GND, K40 GND, K44 GND, L3 GND, L7 GND, L8 GND, L12 GND, L13 GND, L22 GND, L32 GND, L33 GND, L37 GND, L38 GND, L42 GND, M1 GND, M5 GND, M9 GND, M10 GND, M13 GND, M19 GND, M29 GND, M32 GND, M35 GND, M36 GND, M40 GND, M44 GND, N3 GND, N7 GND, N11 GND, N12 GND, N13 GND, N16 GND, N26 GND, N32 GND, N33 GND, N34 GND, N38 GND, N42 GND, P1 GND, P2 GND, P5 GND, P6 GND, P9 GND, P13 GND, P23 GND, P32 GND, P36 GND, P39 GND, P40 GND, P43 GND, P44 GND, R3 GND, R4 GND, R7 GND, R8 GND, R11 GND, R12 GND, R13 GND, R20 GND, R30 GND, R32 GND, R33 GND, R34 GND, R37 GND, R38 GND, R41 GND, R42 GND, T1 GND, T5 GND, T9 GND, T10 GND, T13 GND, T17 GND, T27 GND, T31 GND, T32 GND, T35 GND, T36 GND, T40 GND, T44 GND, U3 GND, U7 GND, U11 GND, U12 GND, U13 GND, U14 GND, U16 GND, U18 GND, U20 GND, U22 GND, U24 GND, U26 GND, U28 GND, U30 GND, U32 GND, U33 GND, U34 GND, U38 GND, U42 GND, V1 GND, V2 GND, V5 GND, V6 GND, V9 GND, V10 GND, V11 GND, V13 GND, V15 GND, V17 GND, V19 GND, V21 GND, V23 GND, V25 GND, V27 GND, V29 GND, V31 GND, V34 GND, V35 GND, V36 GND, V39 GND, V40 GND, V43 GND, V44 GND, W3 GND, W4 GND, W7 GND, W8 GND, W11 GND, W14 GND, W16 GND, W18 GND, W20 GND, W22 GND, W24 GND, W26 GND, W28 GND, W30 GND, W32 GND, W34 GND, W37 GND, W38 GND, W41 GND, W42 GND, Y1 GND, Y5 GND, Y9 GND, Y11 GND, Y13 GND, Y15 GND, Y17 GND, Y19 GND, Y21 GND, Y23 GND, Y25 GND, Y27 GND, Y29 GND, Y31 GND, Y34 GND, Y36 GND, Y40 GND, Y44 GND
part S pins: AH11 GND, AH13 GND, AH21 GND, AH31 GND, AH33 GND, AH34 GND, AH35 GND, AH36 GND, AH40 GND, AH44 GND, AJ3 GND, AJ7 GND, AJ11 GND, AJ12 GND, AJ13 GND, AJ18 GND, AJ28 GND, AJ32 GND, AJ33 GND, AJ34 GND, AJ38 GND, AJ42 GND, AK1 GND, AK2 GND, AK5 GND, AK6 GND, AK9 GND, AK10 GND, AK13 GND, AK15 GND, AK25 GND, AK32 GND, AK35 GND, AK36 GND, AK39 GND, AK40 GND, AK43 GND, AK44 GND, AL3 GND, AL4 GND, AL7 GND, AL8 GND, AL11 GND, AL12 GND, AL13 GND, AL22 GND, AL32 GND, AL33 GND, AL34 GND, AL37 GND, AL38 GND, AL41 GND, AL42 GND, AM1 GND, AM5 GND, AM9 GND, AM13 GND, AM19 GND, AM29 GND, AM32 GND, AM36 GND, AM40 GND, AM44 GND, AN3 GND, AN7 GND, AN11 GND, AN12 GND, AN13 GND, AN16 GND, AN26 GND, AN32 GND, AN33 GND, AN34 GND, AN38 GND, AN42 GND, AP1 GND, AP5 GND, AP6 GND, AP9 GND, AP10 GND, AP13 GND, AP23 GND, AP32 GND, AP35 GND, AP36 GND, AP39 GND, AP40 GND, AP44 GND, AR3 GND, AR7 GND, AR12 GND, AR13 GND, AR20 GND, AR30 GND, AR32 GND, AR33 GND, AR38 GND, AR42 GND, AT1 GND, AT5 GND, AT9 GND, AT10 GND, AT13 GND, AT17 GND, AT27 GND, AT32 GND, AT35 GND, AT36 GND, AT40 GND, AT44 GND, AU3 GND, AU4 GND, AU7 GND, AU8 GND, AU11 GND, AU12 GND, AU13 GND, AU14 GND, AU24 GND, AU32 GND, AU33 GND, AU34 GND, AU37 GND, AU38 GND, AU41 GND, AU42 GND, AV1 GND, AV5 GND, AV9 GND, AV13 GND, AV21 GND, AV31 GND, AV32 GND, AV36 GND, AV40 GND, AV44 GND, AW3 GND, AW7 GND, AW11 GND, AW12 GND, AW13 GND, AW18 GND, AW28 GND, AW32 GND, AW33 GND, AW34 GND, AW38 GND, AW42 GND, AY1 GND, AY2 GND, AY5 GND, AY6 GND, AY9 GND, AY10 GND, AY13 GND, AY15 GND, AY25 GND, AY32 GND, AY35 GND, AY36 GND, AY39 GND, AY40 GND, AY43 GND, AY44 GND, BA3 GND, BA4 GND, BA7 GND, BA11 GND, BA12 GND, BA13 GND, BA22 GND, BA32 GND, BA33 GND, BA34 GND, BA38 GND, BA41 GND, BA42 GND, BB1 GND, BB5 GND, BB9 GND, BB13 GND, BB19 GND, BB29 GND, BB32 GND, BB36 GND, BB40 GND, BB44 GND, BC2 GND, BC3 GND, BC7 GND, BC11 GND, BC13 GND, BC16 GND, BC26 GND, BC32 GND, BC34 GND, BC38 GND, BC42 GND, BC43 GND, BD5 GND, BD6 GND, BD9 GND, BD10 GND, BD13 GND, BD23 GND, BD32 GND, BD35 GND, BD36 GND, BD39 GND, BD40 GND

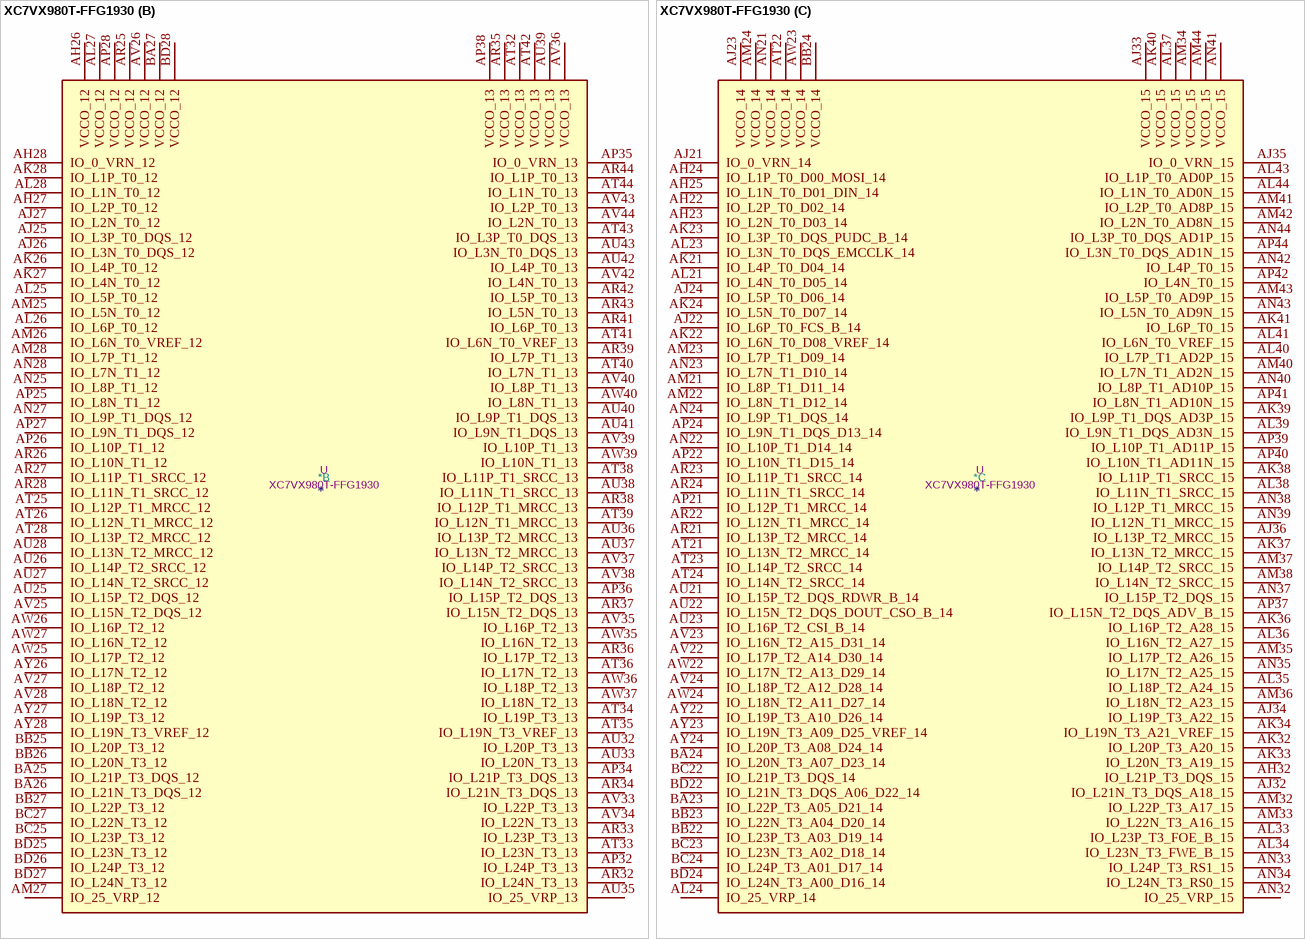
[diagram p150: symbol XC7VX980T-FFG1930]

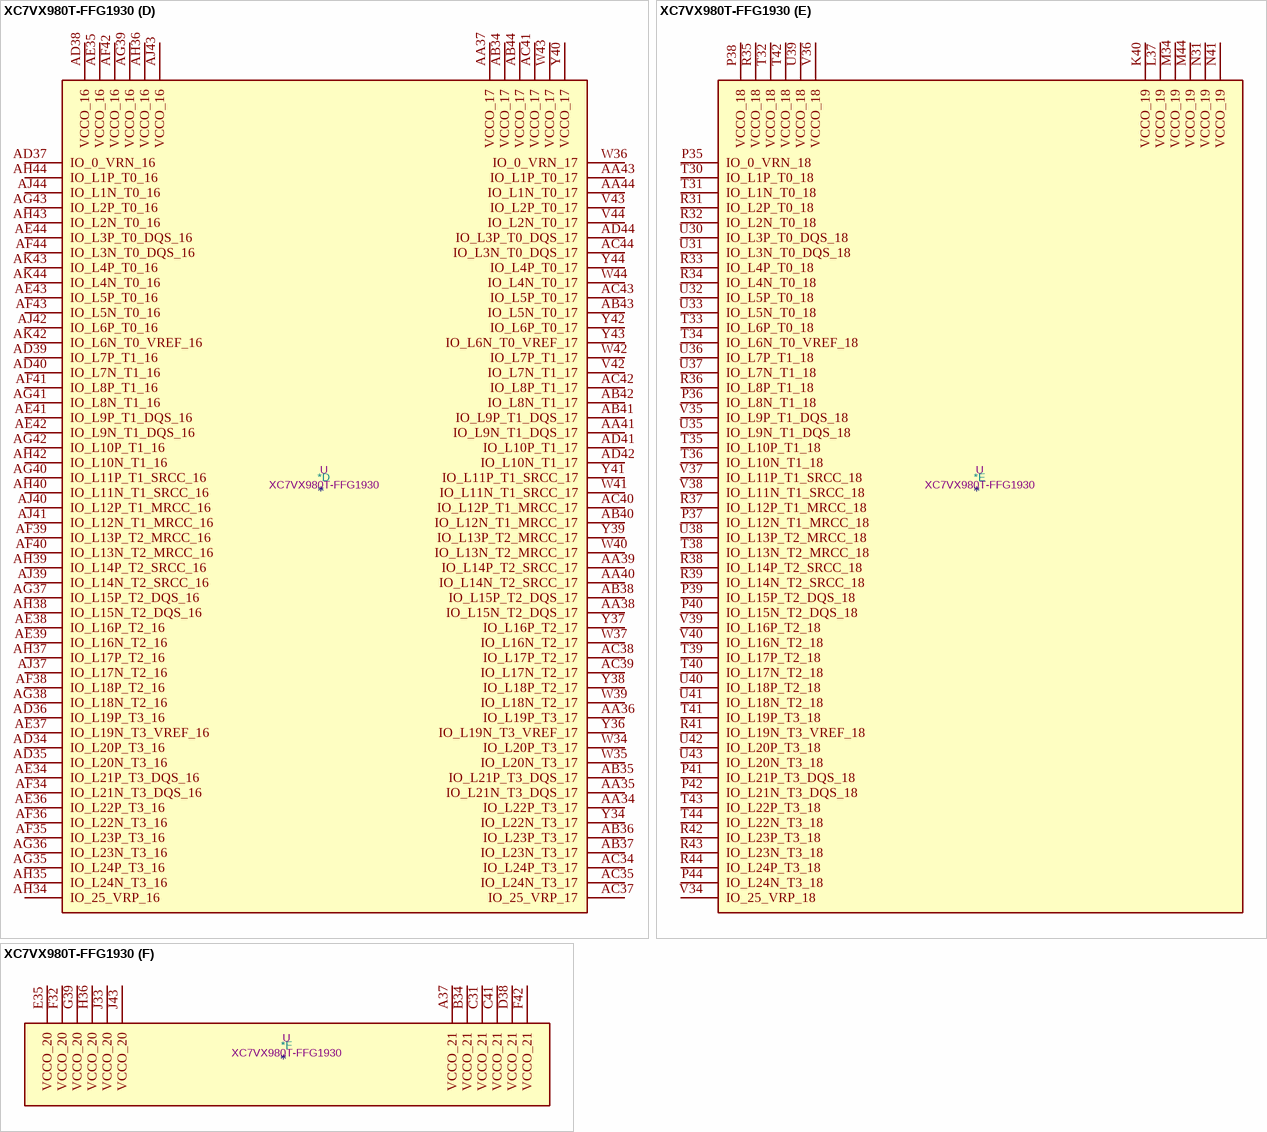
[diagram p151: symbol XC7VX980T-FFG1930]

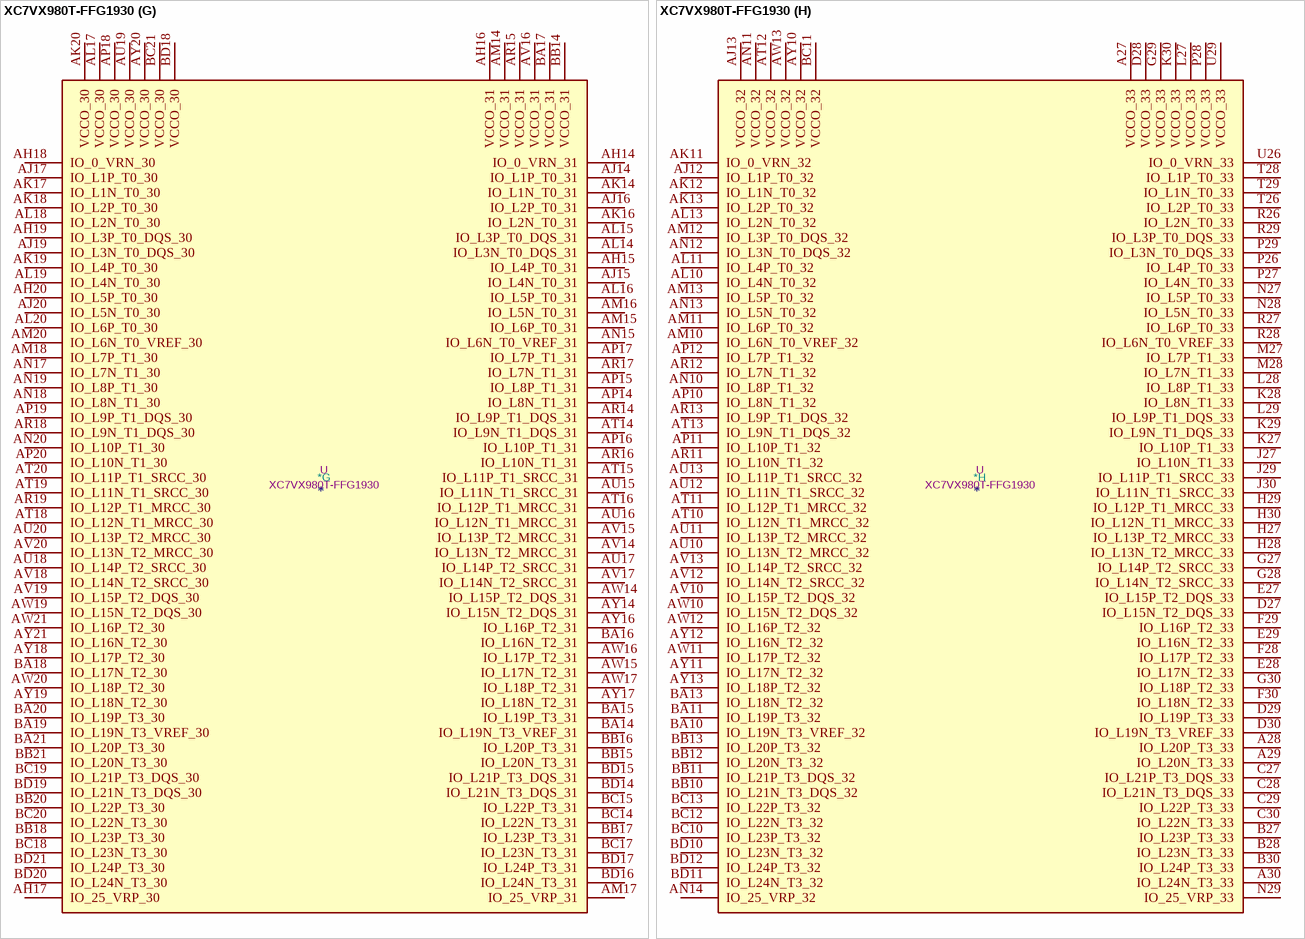
[diagram p152: symbol XC7VX980T-FFG1930]

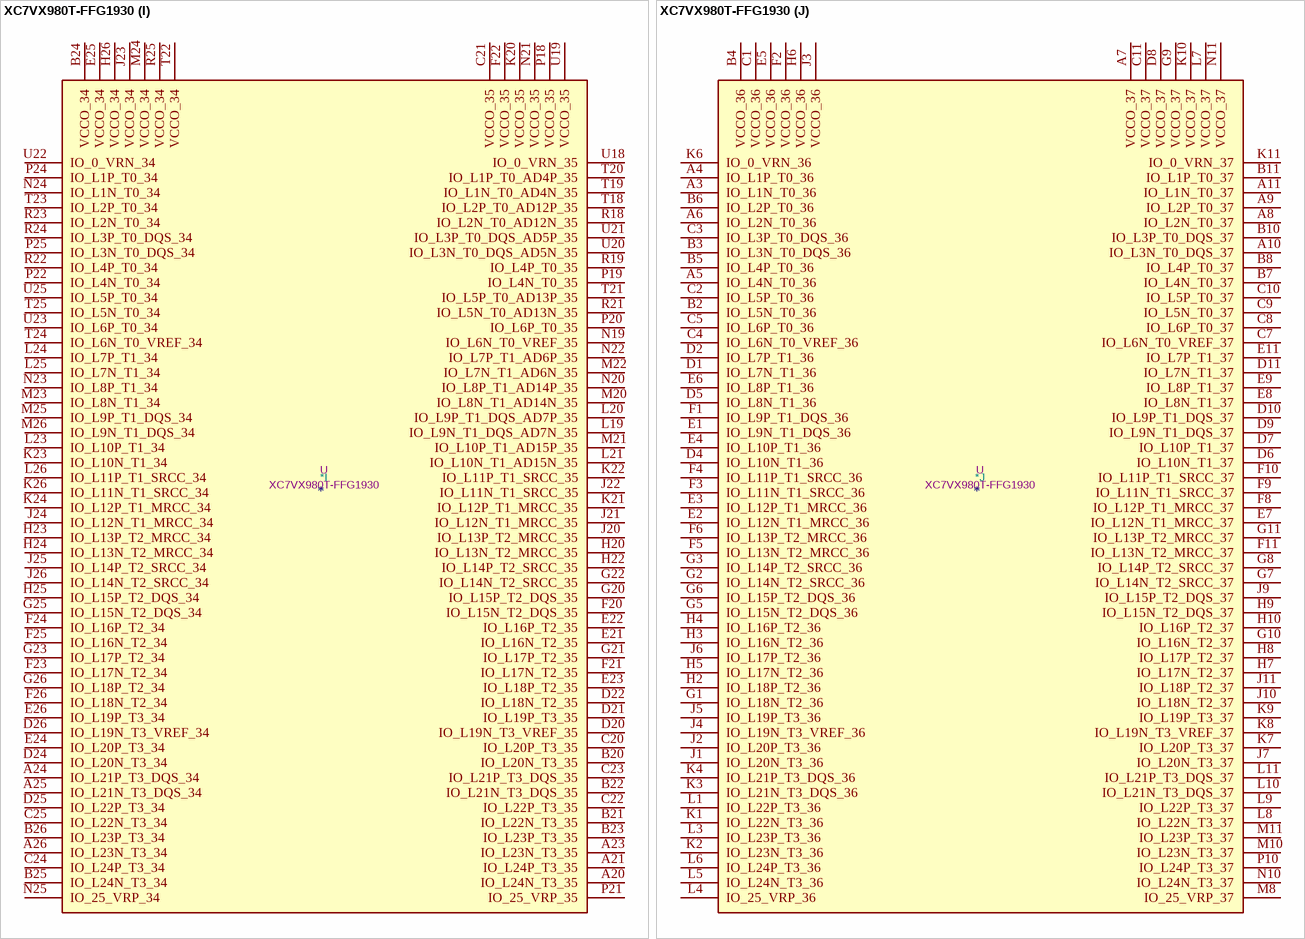
[diagram p153: symbol XC7VX980T-FFG1930]

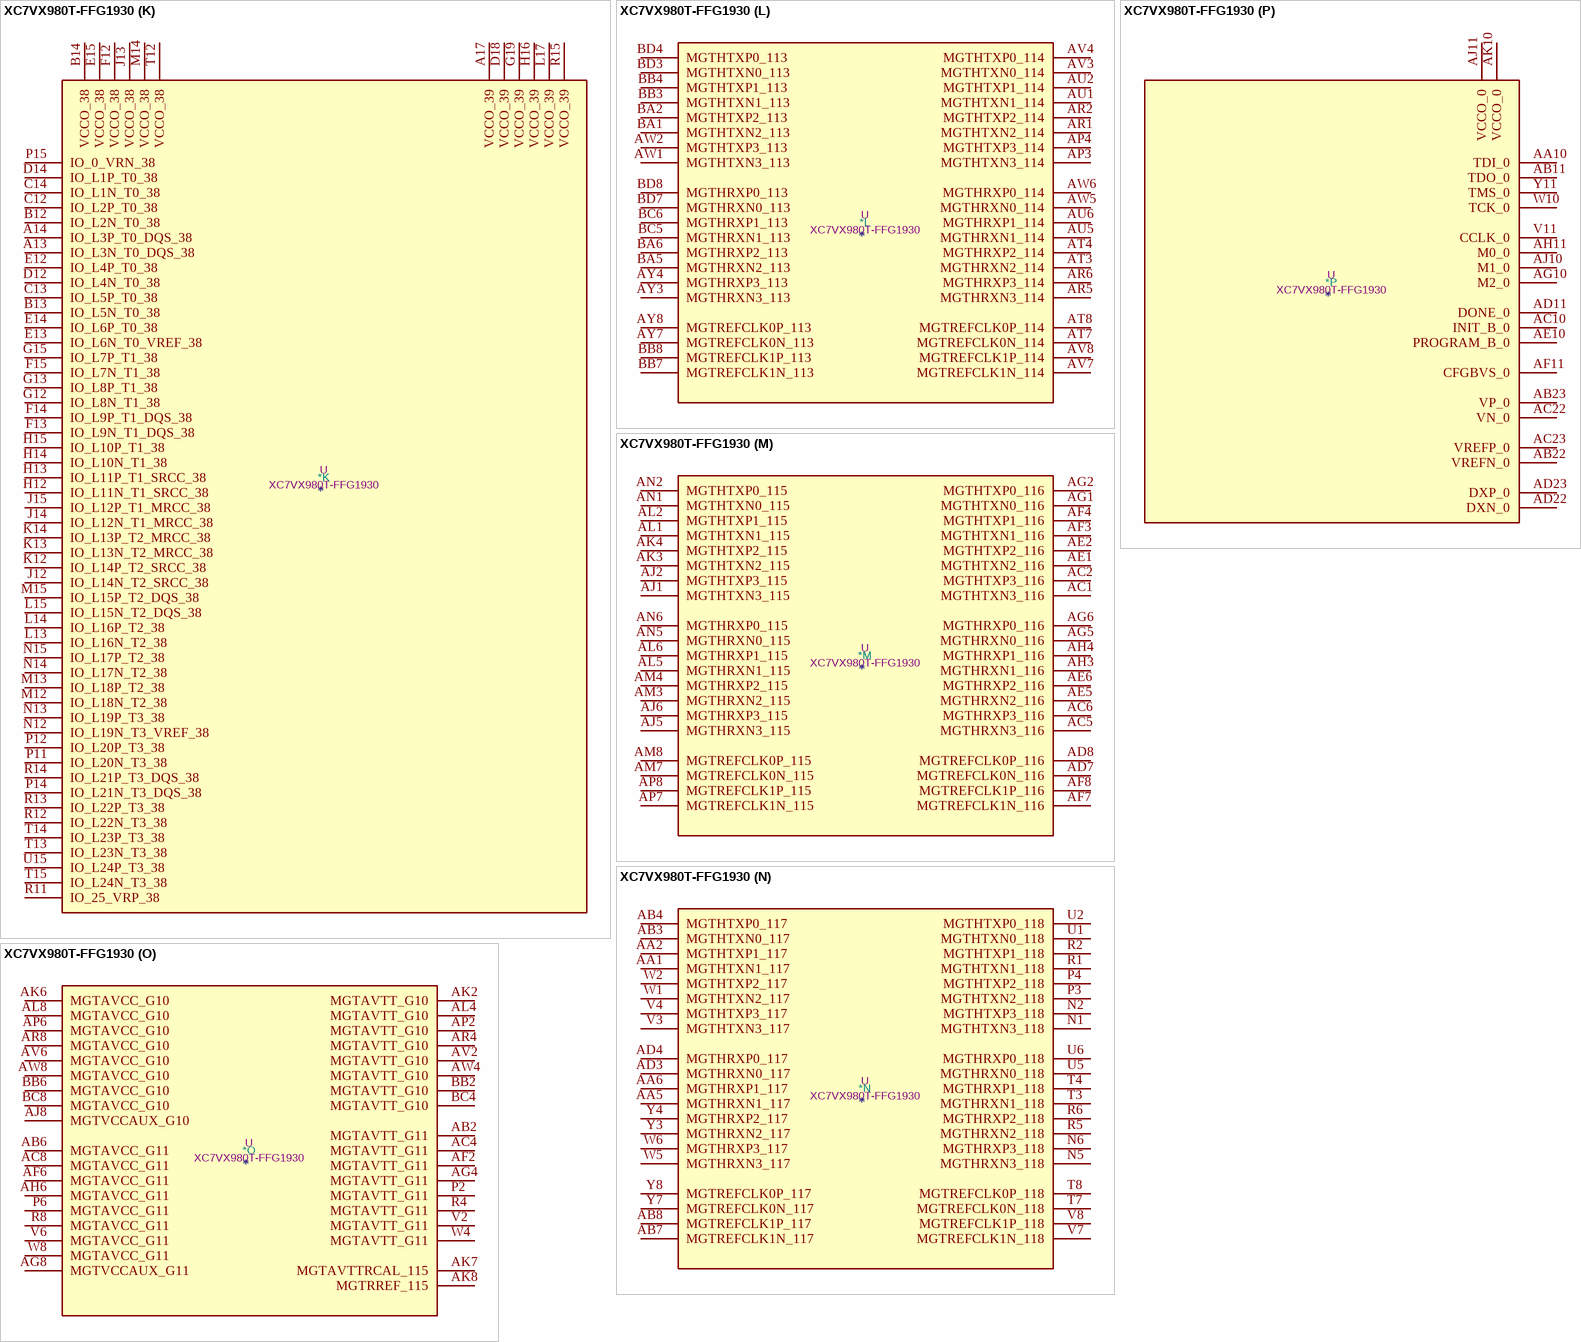
[diagram p154: symbol XC7VX980T-FFG1930]

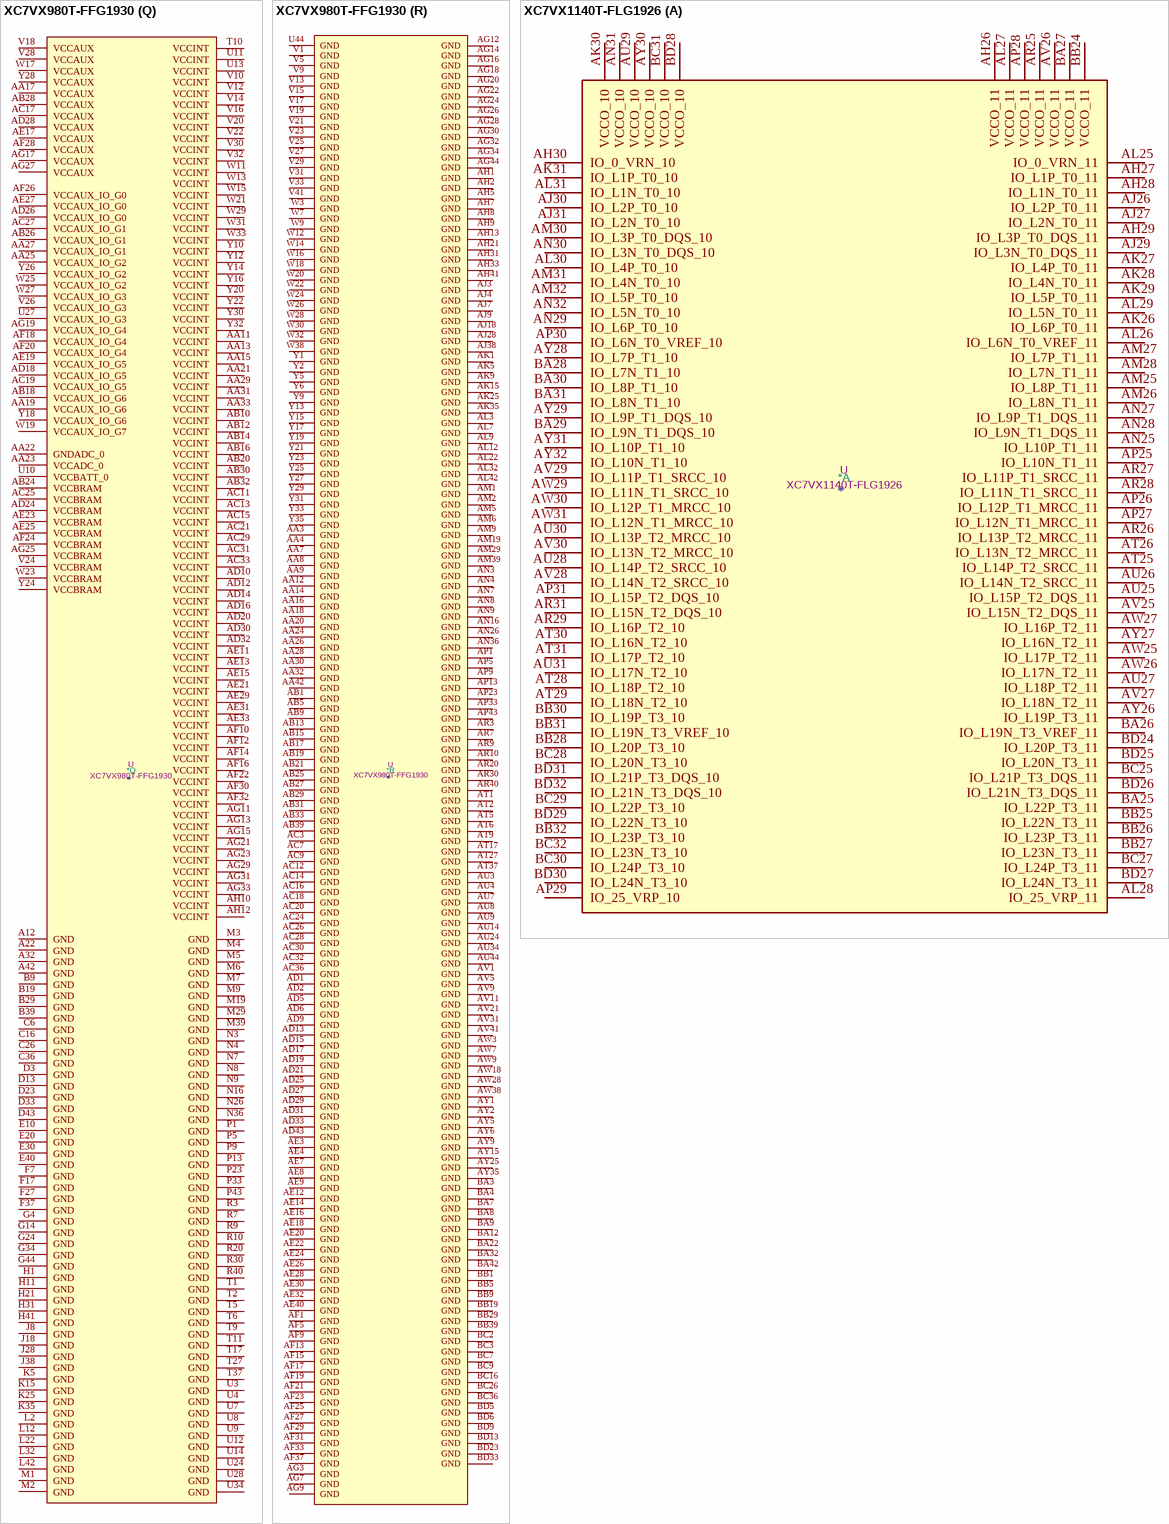
[diagram p155: symbols XC7VX980T-FFG1930 to XC7VX1140T-FLG1926]